# EAGLE library part ATTINY*4A-? (library ic-ATMEL)
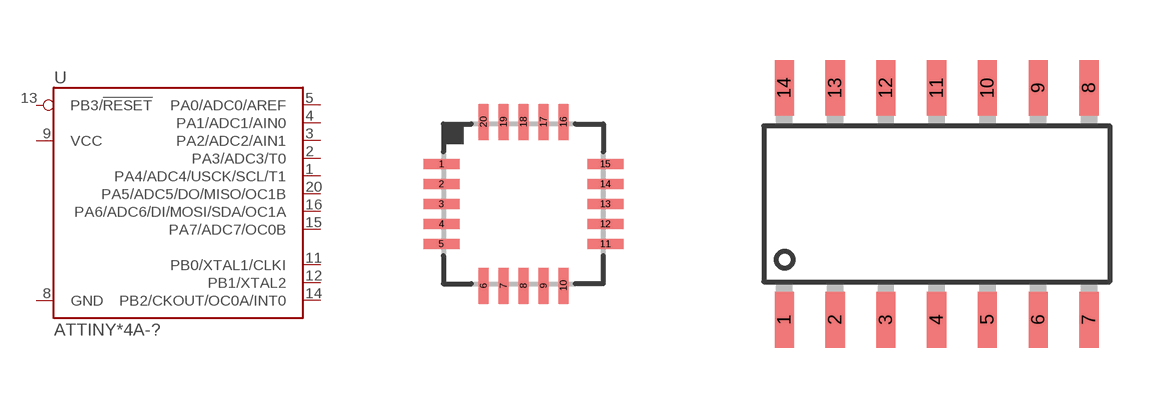
[diagram p19: symbol with the pads of QFN20-0.5-NOPAD; footprints QFN20-0.5-NOPAD, SOP14]

Designator prefix U

## ATTINY24A-MU, ATTINY44A-MU, ATTINY84A-MU  [QFN20-0.5-NOPAD]
1  PA4/ADC4/USCK/SCL/T1
2  PA3/ADC3/T0
3  PA2/ADC2/AIN1
4  PA1/ADC1/AIN0
5  PA0/ADC0/AREF
8  GND
9  VCC
11  PB0/XTAL1/CLKI
12  PB1/XTAL2
13  PB3/!RESET!
14  PB2/CKOUT/OC0A/INT0
15  PA7/ADC7/OC0B
16  PA6/ADC6/DI/MOSI/SDA/OC1A
20  PA5/ADC5/DO/MISO/OC1B

## ATTINY24A-SSU, ATTINY44A-SSU, ATTINY84A-SSU  [SOP14]
1  VCC
2  PB0/XTAL1/CLKI
3  PB1/XTAL2
4  PB3/!RESET!
5  PB2/CKOUT/OC0A/INT0
6  PA7/ADC7/OC0B
7  PA6/ADC6/DI/MOSI/SDA/OC1A
8  PA5/ADC5/DO/MISO/OC1B
9  PA4/ADC4/USCK/SCL/T1
10  PA3/ADC3/T0
11  PA2/ADC2/AIN1
12  PA1/ADC1/AIN0
13  PA0/ADC0/AREF
14  GND

## Footprint QFN20-0.5-NOPAD (pad centres in mm)
smd 0.9 x 0.25: 1 -2.05,1; 2 -2.05,0.5; 3 -2.05,0; 4 -2.05,-0.5; 5 -2.05,-1; 11 2.05,-1; 12 2.05,-0.5; 13 2.05,0; 14 2.05,0.5; 15 2.05,1
smd 0.25 x 0.9: 6 -1,-2.05; 7 -0.5,-2.05; 8 0,-2.05; 9 0.5,-2.05; 10 1,-2.05; 16 1,2.05; 17 0.5,2.05; 18 0,2.05; 19 -0.5,2.05; 20 -1,2.05

## Footprint SOP14 (pad centres in mm)
smd 0.48 x 1.4: 1 -3.81,-2.9; 2 -2.54,-2.9; 3 -1.27,-2.9; 4 0,-2.9; 5 1.27,-2.9; 6 2.54,-2.9; 7 3.81,-2.9; 8 3.81,2.9; 9 2.54,2.9; 10 1.27,2.9; 11 0,2.9; 12 -1.27,2.9; 13 -2.54,2.9; 14 -3.81,2.9